# Altium footprint library DCDC_convertor.PcbLib: 2 footprints
Each footprint in its own frame and in the unit in brackets; x right, y up, seen from the top. Pads: shape width x height; smd on the part's side, far side on the other; paste and mask are expansions set on the pad; w line width, h text height; cw(c..) or ccw(c..) is an arc to the next point about the centre after c.
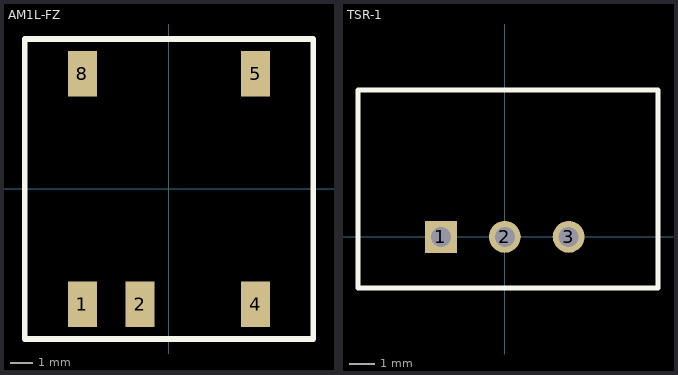
[diagram p0: the footprints below, top view; thin cyan lines are the x and y axes]

## AM1L-FZ [mm]
pads (5):
  rect 1.27x2 smd: 1(-3.81,-5.08) 2(-1.27,-5.08) 4(3.81,-5.08) 5(3.81,5.08) 8(-3.81,5.08)
Top Overlay:
  lines w0.254: -6.35,-6.604 -6.35,6.604 6.35,6.604 6.35,-6.604 -6.35,-6.604
3D body "AM1L-0303S-NZ-214.STEP": height 6.23, standoff -0.02, extent -6.35,-5.6 6.35,5.6

## TSR-1 [mm]
pads (3):
  rect 1.27x1.27 hole 0.8: 1(-2.54,0)
  round 1.27 hole 0.8: 2(0,0) 3(2.54,0)
Top Overlay:
  lines w0.2: -5.842,-2.032 -5.842,5.842 6.096,5.842 6.096,-2.032 -5.842,-2.032
3D body "TSR-1.STEP": height 10.5, standoff -4.1, extent -5.723,-1.886 5.977,5.715